# Altium footprint library smdchip.PcbLib: 57 footprints (part 3 of 4)
Each footprint in its own frame and in the unit in brackets; x right, y up, seen from the top. Pads: shape width x height; smd on the part's side, far side on the other; paste and mask are expansions set on the pad; w line width, h text height; cw(c..) or ccw(c..) is an arc to the next point about the centre after c.
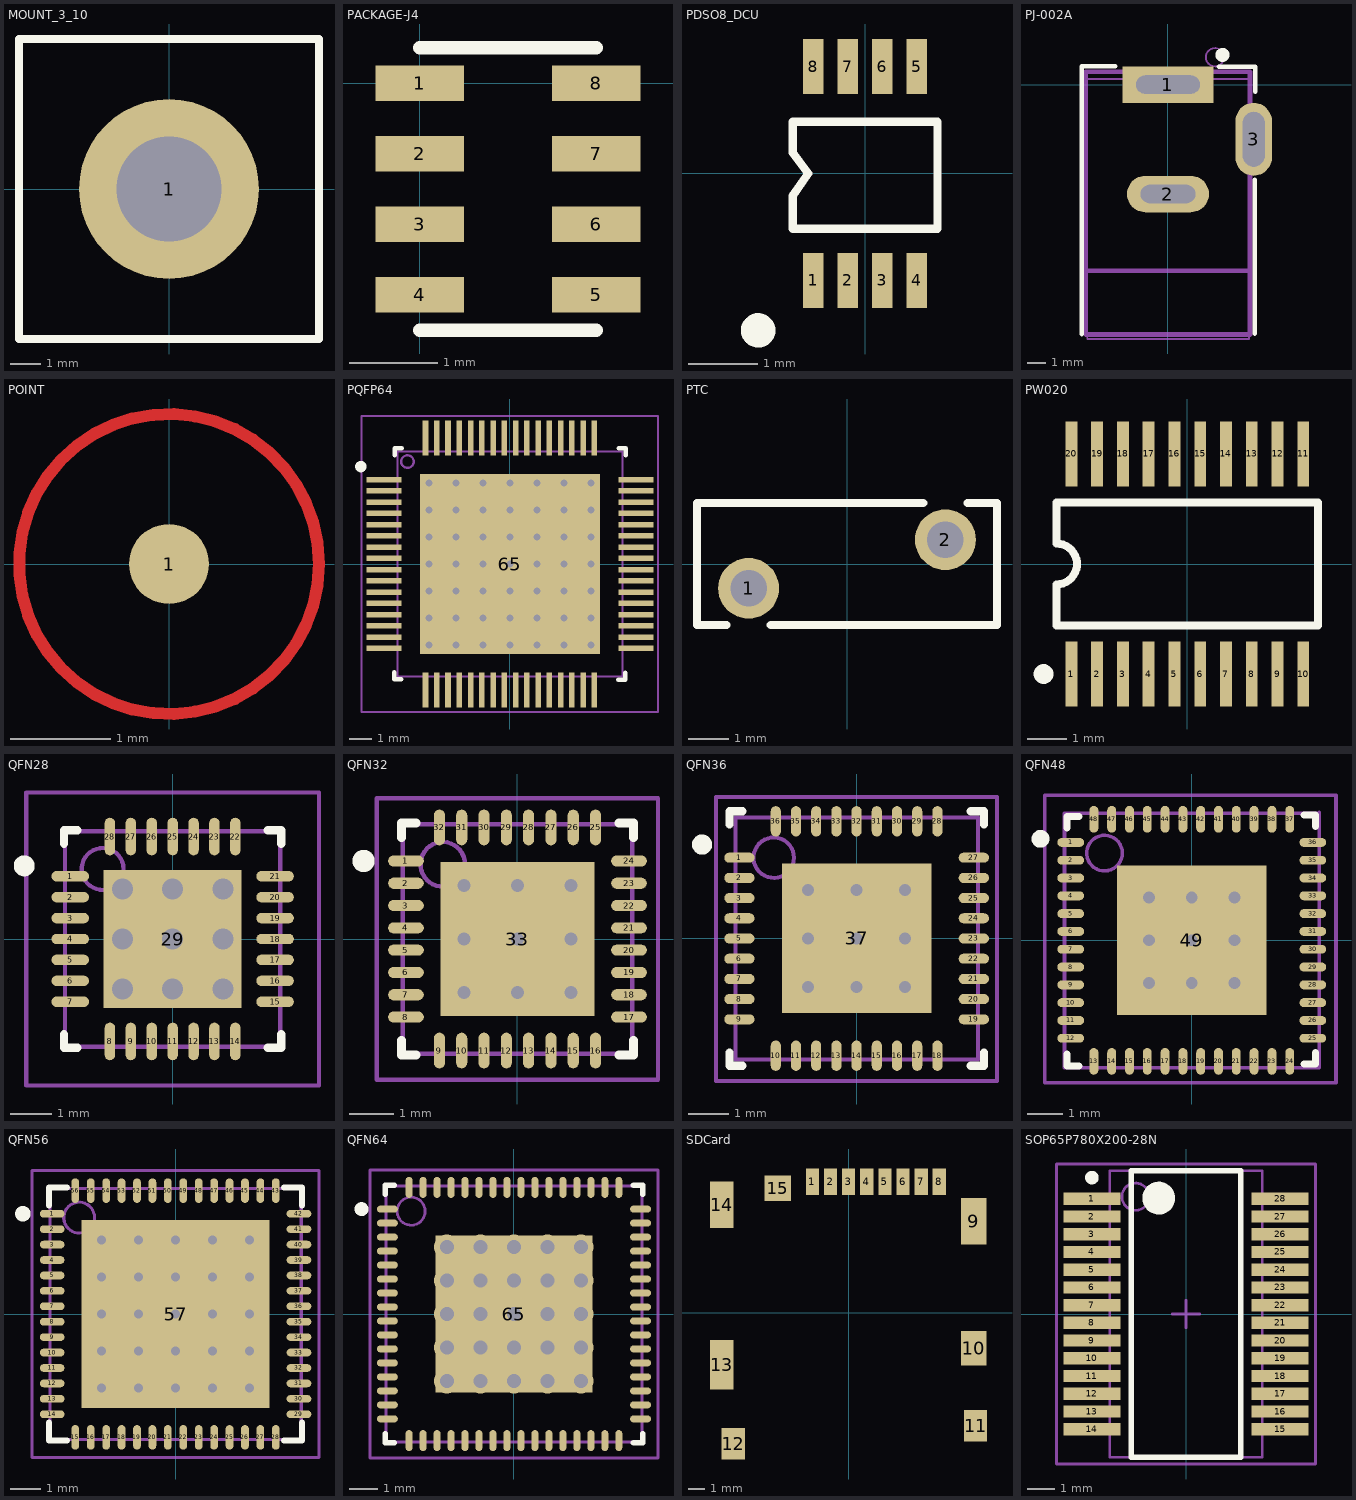
[diagram p2: the footprints below, top view; thin cyan lines are the x and y axes]

## MOUNT_3_10 [mm]
pads (1):
  round 6 hole 3.5: 1(0,0)
Top Overlay:
  lines w0.254: -5,-5 5,-5 5,5 -5,5 -5,-5
Mechanical 15:
  lines w0.1: -0.483,0 0.517,0 ; 0.017,-0.5 0.017,0.5 ; -5,-4.975 5,-4.975 5,4.95 -5,4.95 -5,-4.975

## PACKAGE-J4 [mm]
pads (8):
  rect 1x0.4 smd: 1(0,0) 2(0,-0.8) 3(0,-1.6) 4(0,-2.4) 5(2,-2.4) 6(2,-1.6) 7(2,-0.8) 8(2,0)
Top Overlay:
  lines w0.15: 0,-2.8 2,-2.8 ; 0,0.4 2,0.4

## PDSO8_DCU [mm] "Plastic Small Outline; 8 Leads; Body Width 3.15 mm; Pitch 0.65 mm"
height 1.2
pads (8):
  rect 0.3x0.8 smd mask+0.05: 1(-0.75,-1.55) 2(-0.25,-1.55) 3(0.25,-1.55) 4(0.75,-1.55) 5(0.75,1.55) 6(0.25,1.55) 7(-0.25,1.55) 8(-0.75,1.55)
Top Overlay:
  circle w0.25: c-1.55,-2.275 r0.125
  lines w0.12: -1.05,-0.8 -1.05,-0.325 -0.825,0 -1.05,0.3 -1.05,0.75 1.05,0.75 1.05,-0.8 -1.05,-0.8

## PJ-002A [mm] "DC POWER JACK"
height 11
pads (3):
  rect 5x2 hole 1 slot 3.5 at 0 deg: 1(0,0)
  oval 4.5x2 hole 1 slot 3 at 0 deg: 2(0,-6)
  oval 2x4 hole 1.2 slot 3 at 90 deg: 3(4.7,-3)
Top Overlay:
  circle w0.4: c2.985,1.625 r0.185
  lines w0.254: -4.725,-13.675 -4.725,1 -2.9,1 ; 2.8,0.975 4.775,0.975 4.775,-0.4 ; 4.75,-13.645 4.75,-5.225
Mechanical 13:
  circle w0.1: c2.575,1.5 r0.5
  lines w0.1: -4.425,-13.95 -4.425,0.3 4.45,0.3 4.45,-13.95 -4.425,-13.95
Mechanical 15:
  lines w0.254: -4.5,-10.2 4.5,-10.2 ; -4.5,-13.7 4.5,-13.7 4.5,0.7 -4.5,0.7 -4.5,-13.7
3D body: height 11, standoff 0, extent -4.425,-13.925 4.375,0.3

## POINT [mm] "Point Pick"
pads (1):
  round 0.8 smd paste-1 mask+1: 1(0,0)
Top Layer:
  circle w0.12: c0,0 r1.5

## PQFP64 [mm] "64-Pin Quad Flat Pad 0.5 mm Pitch, IPC Low Density"
height 1
pads (65):
  rect 1.55x0.25 smd: 1(-5.6,3.75) 2(-5.6,3.25) 3(-5.6,2.75) 4(-5.6,2.25) 5(-5.6,1.75) 6(-5.6,1.25) 7(-5.6,0.75) 8(-5.6,0.25) 9(-5.6,-0.25) 10(-5.6,-0.75) 11(-5.6,-1.25) 12(-5.6,-1.75) 13(-5.6,-2.25) 14(-5.6,-2.75) 15(-5.6,-3.25) 16(-5.6,-3.75) 33(5.6,-3.75) 34(5.6,-3.25) 35(5.6,-2.75) 36(5.6,-2.25) 37(5.6,-1.75) 38(5.6,-1.25) 39(5.6,-0.75) 40(5.6,-0.25) 41(5.6,0.25) 42(5.6,0.75) 43(5.6,1.25) 44(5.6,1.75) 45(5.6,2.25) 46(5.6,2.75) 47(5.6,3.25) 48(5.6,3.75)
  rect 0.25x1.55 smd: 17(-3.75,-5.6) 18(-3.25,-5.6) 19(-2.75,-5.6) 20(-2.25,-5.6) 21(-1.75,-5.6) 22(-1.25,-5.6) 23(-0.75,-5.6) 24(-0.25,-5.6) 25(0.25,-5.6) 26(0.75,-5.6) 27(1.25,-5.6) 28(1.75,-5.6) 29(2.25,-5.6) 30(2.75,-5.6) 31(3.25,-5.6) 32(3.75,-5.6) 49(3.75,5.6) 50(3.25,5.6) 51(2.75,5.6) 52(2.25,5.6) 53(1.75,5.6) 54(1.25,5.6) 55(0.75,5.6) 56(0.25,5.6) 57(-0.25,5.6) 58(-0.75,5.6) 59(-1.25,5.6) 60(-1.75,5.6) 61(-2.25,5.6) 62(-2.75,5.6) 63(-3.25,5.6) 64(-3.75,5.6)
  rect 8x8 smd: 65(0,0)
via -3.6,-2.4 diameter 0.8 hole 0.3
via -3.6,-1.2 diameter 0.8 hole 0.3
via -3.6,0 diameter 0.8 hole 0.3
via -3.6,1.2 diameter 0.8 hole 0.3
via -3.6,2.4 diameter 0.8 hole 0.3
via -3.6,3.6 diameter 0.8 hole 0.3
via -3.6,-3.6 diameter 0.8 hole 0.3
via 3.6,-2.4 diameter 0.8 hole 0.3
via 3.6,-1.2 diameter 0.8 hole 0.3
via 3.6,0 diameter 0.8 hole 0.3
via 3.6,1.2 diameter 0.8 hole 0.3
via 3.6,2.4 diameter 0.8 hole 0.3
via 3.6,3.6 diameter 0.8 hole 0.3
via 3.6,-3.6 diameter 0.8 hole 0.3
via 2.4,-3.6 diameter 0.8 hole 0.3
via 1.2,-3.6 diameter 0.8 hole 0.3
via 0,-3.6 diameter 0.8 hole 0.3
via -1.2,-3.6 diameter 0.8 hole 0.3
via -2.4,-3.6 diameter 0.8 hole 0.3
via 2.4,3.6 diameter 0.8 hole 0.3
via 1.2,3.6 diameter 0.8 hole 0.3
via 0,3.6 diameter 0.8 hole 0.3
via -1.2,3.6 diameter 0.8 hole 0.3
via -2.4,3.6 diameter 0.8 hole 0.3
via -2.4,2.4 diameter 0.8 hole 0.3
via -1.2,2.4 diameter 0.8 hole 0.3
via 0,2.4 diameter 0.8 hole 0.3
via 1.2,2.4 diameter 0.8 hole 0.3
via 2.4,2.4 diameter 0.8 hole 0.3
via -2.4,1.2 diameter 0.8 hole 0.3
via -1.2,1.2 diameter 0.8 hole 0.3
via 0,1.2 diameter 0.8 hole 0.3
via 1.2,1.2 diameter 0.8 hole 0.3
via 2.4,1.2 diameter 0.8 hole 0.3
via -2.4,0 diameter 0.8 hole 0.3
via -1.2,0 diameter 0.8 hole 0.3
via 0,0 diameter 0.8 hole 0.3
via 1.2,0 diameter 0.8 hole 0.3
via 2.4,0 diameter 0.8 hole 0.3
via -2.4,-1.2 diameter 0.8 hole 0.3
via -1.2,-1.2 diameter 0.8 hole 0.3
via 0,-1.2 diameter 0.8 hole 0.3
via 1.2,-1.2 diameter 0.8 hole 0.3
via 2.4,-1.2 diameter 0.8 hole 0.3
via -2.4,-2.4 diameter 0.8 hole 0.3
via -1.2,-2.4 diameter 0.8 hole 0.3
via 0,-2.4 diameter 0.8 hole 0.3
via 1.2,-2.4 diameter 0.8 hole 0.3
via 2.4,-2.4 diameter 0.8 hole 0.3
Top Overlay:
  circle w0.25: c-6.625,4.325 r0.125
  lines w0.2: -5.15,-4.8 -5.15,-5.125 -4.825,-5.125 ; -5.125,4.825 -5.125,5.15 -4.8,5.15 ; 4.8,-5.15 5.125,-5.15 5.125,-4.825 ; 4.825,5.15 5.15,5.15 5.15,4.825
Bottom Solder:
  circle w0.6: c3.6,-3.6 r0.15
  circle w0.6: c3.6,-2.4 r0.15
  circle w0.6: c3.6,-1.2 r0.15
  circle w0.6: c3.6,0 r0.15
  circle w0.6: c3.6,1.2 r0.15
  circle w0.6: c3.6,2.4 r0.15
  circle w0.6: c3.6,3.6 r0.15
  circle w0.6: c2.4,2.4 r0.15
  circle w0.6: c2.4,3.6 r0.15
  circle w0.6: c2.4,1.2 r0.15
  circle w0.6: c2.4,0 r0.15
  circle w0.6: c2.4,-1.2 r0.15
  circle w0.6: c2.4,-2.4 r0.15
  circle w0.6: c2.4,-3.6 r0.15
  circle w0.6: c1.2,-3.6 r0.15
  circle w0.6: c1.2,-2.4 r0.15
  circle w0.6: c1.2,-1.2 r0.15
  circle w0.6: c1.2,0 r0.15
  circle w0.6: c1.2,1.2 r0.15
  circle w0.6: c1.2,2.4 r0.15
  circle w0.6: c1.2,3.6 r0.15
  circle w0.6: c0,3.6 r0.15
  circle w0.6: c0,2.4 r0.15
  circle w0.6: c0,1.2 r0.15
  circle w0.6: c0,0 r0.15
  circle w0.6: c0,-1.2 r0.15
  circle w0.6: c0,-2.4 r0.15
  circle w0.6: c0,-3.6 r0.15
  circle w0.6: c-1.2,-3.6 r0.15
  circle w0.6: c-1.2,-2.4 r0.15
  circle w0.6: c-1.2,-1.2 r0.15
  circle w0.6: c-1.2,0 r0.15
  circle w0.6: c-1.2,1.2 r0.15
  circle w0.6: c-1.2,2.4 r0.15
  circle w0.6: c-1.2,3.6 r0.15
  circle w0.6: c-2.4,3.6 r0.15
  circle w0.6: c-2.4,2.4 r0.15
  circle w0.6: c-2.4,1.2 r0.15
  circle w0.6: c-2.4,0 r0.15
  circle w0.6: c-2.4,-1.2 r0.15
  circle w0.6: c-2.4,-2.4 r0.15
  circle w0.6: c-2.4,-3.6 r0.15
  circle w0.6: c-3.6,-3.6 r0.15
  circle w0.6: c-3.6,-2.4 r0.15
  circle w0.6: c-3.6,-1.2 r0.15
  circle w0.6: c-3.6,0 r0.15
  circle w0.6: c-3.6,1.2 r0.15
  circle w0.6: c-3.6,2.4 r0.15
  circle w0.6: c-3.6,3.6 r0.15
Mechanical 13:
  circle w0.1: c-4.555,4.55 r0.28
  lines w0.1: -5,-5 -5,5 5,5 5,-5 -5,-5
Mechanical 15:
  lines w0.1: -0.5,0 0.5,0 ; 0,-0.5 0,0.5 ; -6.6,-6.575 -6.6,6.575 6.575,6.575 6.575,-6.575 -6.6,-6.575
3D body: height 1, standoff 0, extent -5,-4.975 5,5

## PTC [mm]
height 11.6
pads (2):
  round 1.5 hole 0.9: 1(-2.427,-0.6) 2(2.427,0.6)
Top Overlay:
  lines w0.2: -2.974,-1.5 -3.7,-1.5 -3.7,1.5 1.88,1.5 ; -1.88,-1.5 3.7,-1.5 3.7,1.5 2.974,1.5
3D body: height 11.6, standoff 0, extent -3.683,-0.762 3.683,0.889

## PW020 [mm] "Shrink Small Outline; 20 Leads; Body Width 4.4 mm; Pitch 0.65 mm"
height 1.2
pads (20):
  rect 0.3x1.65 smd: 1(-2.925,-2.775) 2(-2.275,-2.775) 3(-1.625,-2.775) 4(-0.975,-2.775) 5(-0.325,-2.775) 6(0.325,-2.775) 7(0.975,-2.775) 8(1.625,-2.775) 9(2.275,-2.775) 10(2.925,-2.775) 11(2.925,2.775) 12(2.275,2.775) 13(1.625,2.775) 14(0.975,2.775) 15(0.325,2.775) 16(-0.325,2.775) 17(-0.975,2.775) 18(-1.625,2.775) 19(-2.275,2.775) 20(-2.925,2.775)
Top Overlay:
  circle w0.25: c-3.625,-2.775 r0.125
  lines w0.2: -3.3,-1.55 3.3,-1.55 3.3,1.55 -3.3,1.55 -3.3,0.517 cw(c-3.3,0) -3.3,-0.517 -3.3,-1.55

## QFN28 [mm] "28-Pin Quad Flat No-Lead 0.5 mm Pitch, IPC Low Density"
height 1
pads (29):
  oval 0.9x0.25 smd: 1(-2.45,1.5) 2(-2.45,1) 3(-2.45,0.5) 4(-2.45,0) 5(-2.45,-0.5) 6(-2.45,-1) 7(-2.45,-1.5) 15(2.45,-1.5) 16(2.45,-1) 17(2.45,-0.5) 18(2.45,0) 19(2.45,0.5) 20(2.45,1) 21(2.45,1.5)
  oval 0.25x0.9 smd: 8(-1.5,-2.45) 9(-1,-2.45) 10(-0.5,-2.45) 11(0,-2.45) 12(0.5,-2.45) 13(1,-2.45) 14(1.5,-2.45) 22(1.5,2.45) 23(1,2.45) 24(0.5,2.45) 25(0,2.45) 26(-0.5,2.45) 27(-1,2.45) 28(-1.5,2.45)
  rect 3.3x3.3 smd: 29(0,0)
via 1.2,-1.2 diameter 0.85 hole 0.5
via 0,-1.2 diameter 0.85 hole 0.5
via -1.2,-1.2 diameter 0.85 hole 0.5
via 1.2,0 diameter 0.85 hole 0.5
via 0,0 diameter 0.85 hole 0.5
via -1.2,0 diameter 0.85 hole 0.5
via 1.2,1.2 diameter 0.85 hole 0.5
via 0,1.2 diameter 0.85 hole 0.5
via -1.2,1.2 diameter 0.85 hole 0.5
Top Overlay:
  circle w0.25: c-3.55,1.75 r0.125
  lines w0.2: -2.6,-2.275 -2.6,-2.6 -2.275,-2.6 ; -2.6,2.275 -2.6,2.6 -2.275,2.6 ; 2.275,-2.6 2.6,-2.6 2.6,-2.275 ; 2.275,2.6 2.6,2.6 2.6,2.275
Mechanical 13:
  circle w0.1: c-1.675,1.675 r0.5
  lines w0.1: -2.575,-2.575 2.575,-2.575 2.575,2.575 -2.575,2.575 -2.575,-2.575
Mechanical 15:
  lines w0.1: -0.5,0 0.5,0 ; 0,-0.5 0,0.5 ; -3.5,-3.5 3.5,-3.5 3.5,3.5 -3.5,3.5 -3.5,-3.5
3D body: height 1, standoff 0, extent -2.575,-2.575 2.575,2.575

## QFN32 [mm] "32-Pin Quad Flat No-Lead 0.5 mm Pitch, IPC Medium Density"
height 1
pads (33):
  oval 0.8x0.25 smd: 1(-2.5,1.75) 2(-2.5,1.25) 3(-2.5,0.75) 4(-2.5,0.25) 5(-2.5,-0.25) 6(-2.5,-0.75) 7(-2.5,-1.25) 8(-2.5,-1.75) 17(2.5,-1.75) 18(2.5,-1.25) 19(2.5,-0.75) 20(2.5,-0.25) 21(2.5,0.25) 22(2.5,0.75) 23(2.5,1.25) 24(2.5,1.75)
  oval 0.25x0.8 smd: 9(-1.75,-2.5) 10(-1.25,-2.5) 11(-0.75,-2.5) 12(-0.25,-2.5) 13(0.25,-2.5) 14(0.75,-2.5) 15(1.25,-2.5) 16(1.75,-2.5) 25(1.75,2.5) 26(1.25,2.5) 27(0.75,2.5) 28(0.25,2.5) 29(-0.25,2.5) 30(-0.75,2.5) 31(-1.25,2.5) 32(-1.75,2.5)
  rect 3.45x3.45 smd: 33(0,0)
via -1.2,1.2 diameter 0.6 hole 0.3
via 0,1.2 diameter 0.6 hole 0.3
via 1.2,1.2 diameter 0.6 hole 0.3
via -1.2,0 diameter 0.6 hole 0.3
via 0,0 diameter 0.6 hole 0.3
via 1.2,0 diameter 0.6 hole 0.3
via -1.2,-1.2 diameter 0.6 hole 0.3
via 0,-1.2 diameter 0.6 hole 0.3
via 1.2,-1.2 diameter 0.6 hole 0.3
Top Overlay:
  circle w0.25: c-3.45,1.75 r0.125
  lines w0.2: -2.6,-2.275 -2.6,-2.6 -2.275,-2.6 ; -2.6,2.275 -2.6,2.6 -2.275,2.6 ; 2.275,-2.6 2.6,-2.6 2.6,-2.275 ; 2.275,2.6 2.6,2.6 2.6,2.275
Bottom Solder:
  circle w0.4: c-1.2,1.2 r0.15
  circle w0.4: c-1.2,0 r0.15
  circle w0.4: c-1.2,-1.2 r0.15
  circle w0.4: c0,-1.2 r0.15
  circle w0.4: c0,0 r0.15
  circle w0.4: c0,1.2 r0.15
  circle w0.4: c1.2,1.2 r0.15
  circle w0.4: c1.2,0 r0.15
  circle w0.4: c1.2,-1.2 r0.15
Mechanical 13:
  circle w0.1: c-1.675,1.675 r0.5
  lines w0.1: -2.575,-2.575 -2.575,2.575 2.575,2.575 2.575,-2.575 -2.575,-2.575
Mechanical 15:
  lines w0.1: -0.5,0 0.5,0 ; 0,-0.5 0,0.5 ; -3.15,-3.15 -3.15,3.15 3.15,3.15 3.15,-3.15 -3.15,-3.15
3D body: height 1, standoff 0, extent -2.575,-2.575 2.575,2.575

## QFN36 [mm] "36-Pin Quad Flat No-Lead 0.5 mm Pitch, IPC Medium Density"
height 1
pads (37):
  oval 0.75x0.25 smd: 1(-2.9,2) 2(-2.9,1.5) 3(-2.9,1) 4(-2.9,0.5) 5(-2.9,0) 6(-2.9,-0.5) 7(-2.9,-1) 8(-2.9,-1.5) 9(-2.9,-2) 19(2.9,-2) 20(2.9,-1.5) 21(2.9,-1) 22(2.9,-0.5) 23(2.9,0) 24(2.9,0.5) 25(2.9,1) 26(2.9,1.5) 27(2.9,2)
  oval 0.25x0.75 smd: 10(-2,-2.9) 11(-1.5,-2.9) 12(-1,-2.9) 13(-0.5,-2.9) 14(0,-2.9) 15(0.5,-2.9) 16(1,-2.9) 17(1.5,-2.9) 18(2,-2.9) 28(2,2.9) 29(1.5,2.9) 30(1,2.9) 31(0.5,2.9) 32(0,2.9) 33(-0.5,2.9) 34(-1,2.9) 35(-1.5,2.9) 36(-2,2.9)
  rect 3.7x3.7 smd: 37(0,0)
via -1.2,1.2 diameter 0.6 hole 0.3
via 0,1.2 diameter 0.6 hole 0.3
via 1.2,1.2 diameter 0.6 hole 0.3
via -1.2,0 diameter 0.6 hole 0.3
via 0,0 diameter 0.6 hole 0.3
via 1.2,0 diameter 0.6 hole 0.3
via -1.2,-1.2 diameter 0.6 hole 0.3
via 0,-1.2 diameter 0.6 hole 0.3
via 1.2,-1.2 diameter 0.6 hole 0.3
Top Overlay:
  circle w0.25: c-3.825,2.325 r0.125
  lines w0.2: -3.15,-2.825 -3.15,-3.15 -2.825,-3.15 ; -3.15,2.825 -3.15,3.15 -2.825,3.15 ; 2.825,-3.15 3.15,-3.15 3.15,-2.825 ; 2.825,3.15 3.15,3.15 3.15,2.825
Bottom Solder:
  circle w0.4: c-1.2,1.2 r0.15
  circle w0.4: c-1.2,0 r0.15
  circle w0.4: c-1.2,-1.2 r0.15
  circle w0.4: c0,-1.2 r0.15
  circle w0.4: c0,0 r0.15
  circle w0.4: c0,1.2 r0.15
  circle w0.4: c1.2,1.2 r0.15
  circle w0.4: c1.2,0 r0.15
  circle w0.4: c1.2,-1.2 r0.15
Mechanical 13:
  circle w0.1: c-2.05,2 r0.5
  lines w0.1: -3,-3 -3,3 3,3 3,-3 -3,-3
Mechanical 15:
  lines w0.1: -0.5,0 0.5,0 ; 0,-0.5 0,0.5 ; -3.475,-3.525 -3.475,3.5 3.475,3.5 3.475,-3.525 -3.475,-3.525
3D body: height 1, standoff 0, extent -3,-3 3,3

## QFN48 [mm] "48-Pin Quad Flat No-Lead 0.5 mm Pitch, IPC Medium Density"
height 1
pads (49):
  oval 0.75x0.25 smd: 1(-3.4,2.75) 2(-3.4,2.25) 3(-3.4,1.75) 4(-3.4,1.25) 5(-3.4,0.75) 6(-3.4,0.25) 7(-3.4,-0.25) 8(-3.4,-0.75) 9(-3.4,-1.25) 10(-3.4,-1.75) 11(-3.4,-2.25) 12(-3.4,-2.75) 25(3.4,-2.75) 26(3.4,-2.25) 27(3.4,-1.75) 28(3.4,-1.25) 29(3.4,-0.75) 30(3.4,-0.25) 31(3.4,0.25) 32(3.4,0.75) 33(3.4,1.25) 34(3.4,1.75) 35(3.4,2.25) 36(3.4,2.75)
  oval 0.25x0.75 smd: 13(-2.75,-3.4) 14(-2.25,-3.4) 15(-1.75,-3.4) 16(-1.25,-3.4) 17(-0.75,-3.4) 18(-0.25,-3.4) 19(0.25,-3.4) 20(0.75,-3.4) 21(1.25,-3.4) 22(1.75,-3.4) 23(2.25,-3.4) 24(2.75,-3.4) 37(2.75,3.4) 38(2.25,3.4) 39(1.75,3.4) 40(1.25,3.4) 41(0.75,3.4) 42(0.25,3.4) 43(-0.25,3.4) 44(-0.75,3.4) 45(-1.25,3.4) 46(-1.75,3.4) 47(-2.25,3.4) 48(-2.75,3.4)
  rect 4.2x4.2 smd: 49(0,0)
via 1.2,-1.2 diameter 0.66 hole 0.33
via 0,-1.2 diameter 0.66 hole 0.33
via -1.2,-1.2 diameter 0.66 hole 0.33
via 1.2,0 diameter 0.66 hole 0.33
via 0,0 diameter 0.66 hole 0.33
via -1.2,0 diameter 0.66 hole 0.33
via 1.2,1.2 diameter 0.66 hole 0.33
via 0,1.2 diameter 0.66 hole 0.33
via -1.2,1.2 diameter 0.66 hole 0.33
Top Overlay:
  circle w0.25: c-4.25,2.85 r0.125
  lines w0.2: -3.5,-3.2 -3.5,-3.525 -3.175,-3.525 ; -3.5,3.15 -3.5,3.475 -3.175,3.475 ; 3.15,-3.475 3.475,-3.475 3.475,-3.15 ; 3.15,3.525 3.475,3.525 3.475,3.2
Mechanical 13:
  circle w0.1: c-2.45,2.45 r0.5
  lines w0.1: 3.575,3.575 -3.575,3.575 -3.575,-3.575 3.575,-3.575 3.575,3.6
Mechanical 15:
  lines w0.1: -0.5,0 0.5,0 ; 0,-0.5 0,0.5 ; -4.125,-4 4.05,-4 4.05,4.075 -4.125,4.075 -4.125,-4
3D body: height 1, standoff 0, extent -3.55,-3.55 3.55,3.575

## QFN56 [mm] "QFN, 56-Leads, Body 8,1x8,1mm (max), Pitch 0,50mm, IPC Medium Density"
height 1
pads (57):
  oval 0.8x0.25 smd: 1(-4,3.25) 2(-4,2.75) 3(-4,2.25) 4(-4,1.75) 5(-4,1.25) 6(-4,0.75) 7(-4,0.25) 8(-4,-0.25) 9(-4,-0.75) 10(-4,-1.25) 11(-4,-1.75) 12(-4,-2.25) 13(-4,-2.75) 14(-4,-3.25) 29(4,-3.25) 30(4,-2.75) 31(4,-2.25) 32(4,-1.75) 33(4,-1.25) 34(4,-0.75) 35(4,-0.25) 36(4,0.25) 37(4,0.75) 38(4,1.25) 39(4,1.75) 40(4,2.25) 41(4,2.75) 42(4,3.25)
  oval 0.25x0.8 smd: 15(-3.25,-4) 16(-2.75,-4) 17(-2.25,-4) 18(-1.75,-4) 19(-1.25,-4) 20(-0.75,-4) 21(-0.25,-4) 22(0.25,-4) 23(0.75,-4) 24(1.25,-4) 25(1.75,-4) 26(2.25,-4) 27(2.75,-4) 28(3.25,-4) 43(3.25,4) 44(2.75,4) 45(2.25,4) 46(1.75,4) 47(1.25,4) 48(0.75,4) 49(0.25,4) 50(-0.25,4) 51(-0.75,4) 52(-1.25,4) 53(-1.75,4) 54(-2.25,4) 55(-2.75,4) 56(-3.25,4)
  rect 6.1x6.1 smd: 57(0,0)
via -2.4,2.4 diameter 0.6 hole 0.3
via -1.2,2.4 diameter 0.6 hole 0.3
via 0,2.4 diameter 0.6 hole 0.3
via 1.2,2.4 diameter 0.6 hole 0.3
via 2.4,2.4 diameter 0.6 hole 0.3
via -2.4,1.2 diameter 0.6 hole 0.3
via -1.2,1.2 diameter 0.6 hole 0.3
via 0,1.2 diameter 0.6 hole 0.3
via 1.2,1.2 diameter 0.6 hole 0.3
via 2.4,1.2 diameter 0.6 hole 0.3
via -2.4,0 diameter 0.6 hole 0.3
via -1.2,0 diameter 0.6 hole 0.3
via 0,0 diameter 0.6 hole 0.3
via 1.2,0 diameter 0.6 hole 0.3
via 2.4,0 diameter 0.6 hole 0.3
via -2.4,-1.2 diameter 0.6 hole 0.3
via -1.2,-1.2 diameter 0.6 hole 0.3
via 0,-1.2 diameter 0.6 hole 0.3
via 1.2,-1.2 diameter 0.6 hole 0.3
via 2.4,-1.2 diameter 0.6 hole 0.3
via -2.4,-2.4 diameter 0.6 hole 0.3
via -1.2,-2.4 diameter 0.6 hole 0.3
via 0,-2.4 diameter 0.6 hole 0.3
via 1.2,-2.4 diameter 0.6 hole 0.3
via 2.4,-2.4 diameter 0.6 hole 0.3
Top Overlay:
  circle w0.25: c-4.95,3.25 r0.125
  lines w0.2: -4.1,-3.525 -4.1,-4.1 -3.525,-4.1 ; -4.1,3.525 -4.1,4.1 -3.525,4.1 ; 3.525,-4.1 4.1,-4.1 4.1,-3.525 ; 3.525,4.1 4.1,4.1 4.1,3.525
Bottom Solder:
  circle w0.4: c2.4,-2.4 r0.15
  circle w0.4: c2.4,-1.2 r0.15
  circle w0.4: c2.4,0 r0.15
  circle w0.4: c2.4,1.2 r0.15
  circle w0.4: c2.4,2.4 r0.15
  circle w0.4: c1.2,2.4 r0.15
  circle w0.4: c1.2,1.2 r0.15
  circle w0.4: c1.2,0 r0.15
  circle w0.4: c1.2,-1.2 r0.15
  circle w0.4: c1.2,-2.4 r0.15
  circle w0.4: c0,-2.4 r0.15
  circle w0.4: c0,-1.2 r0.15
  circle w0.4: c0,0 r0.15
  circle w0.4: c0,1.2 r0.15
  circle w0.4: c0,2.4 r0.15
  circle w0.4: c-1.2,2.4 r0.15
  circle w0.4: c-1.2,1.2 r0.15
  circle w0.4: c-1.2,0 r0.15
  circle w0.4: c-1.2,-1.2 r0.15
  circle w0.4: c-1.2,-2.4 r0.15
  circle w0.4: c-2.4,-2.4 r0.15
  circle w0.4: c-2.4,-1.2 r0.15
  circle w0.4: c-2.4,0 r0.15
  circle w0.4: c-2.4,1.2 r0.15
  circle w0.4: c-2.4,2.4 r0.15
Mechanical 13:
  circle w0.1: c-3.125,3.125 r0.5
  lines w0.1: -4.075,-4.075 4.075,-4.075 4.075,4.075 -4.075,4.075 -4.075,-4.075
Mechanical 15:
  lines w0.1: -4.65,-4.65 4.65,-4.65 4.65,4.65 -4.65,4.65 -4.65,-4.65 ; -0.5,0 0.5,0 -0.5,0 ; 0,-0.5 0,0.5 0,-0.5
3D body: height 1, standoff 0.05, extent -4.075,-4.075 4.075,4.075

## QFN64 [mm] "64-Pin Quad Flat No-Lead 0.5 mm Pitch, IPC Medium Density"
height 1
pads (65):
  oval 0.75x0.25 smd: 1(-4.525,3.75) 2(-4.525,3.25) 3(-4.525,2.75) 4(-4.525,2.25) 5(-4.525,1.75) 6(-4.525,1.25) 7(-4.525,0.75) 8(-4.525,0.25) 9(-4.525,-0.25) 10(-4.525,-0.75) 11(-4.525,-1.25) 12(-4.525,-1.75) 13(-4.525,-2.25) 14(-4.525,-2.75) 15(-4.525,-3.25) 16(-4.525,-3.75) 33(4.525,-3.75) 34(4.525,-3.25) 35(4.525,-2.75) 36(4.525,-2.25) 37(4.525,-1.75) 38(4.525,-1.25) 39(4.525,-0.75) 40(4.525,-0.25) 41(4.525,0.25) 42(4.525,0.75) 43(4.525,1.25) 44(4.525,1.75) 45(4.525,2.25) 46(4.525,2.75) 47(4.525,3.25) 48(4.525,3.75)
  oval 0.25x0.75 smd: 17(-3.75,-4.525) 18(-3.25,-4.525) 19(-2.75,-4.525) 20(-2.25,-4.525) 21(-1.75,-4.525) 22(-1.25,-4.525) 23(-0.75,-4.525) 24(-0.25,-4.525) 25(0.25,-4.525) 26(0.75,-4.525) 27(1.25,-4.525) 28(1.75,-4.525) 29(2.25,-4.525) 30(2.75,-4.525) 31(3.25,-4.525) 32(3.75,-4.525) 49(3.75,4.525) 50(3.25,4.525) 51(2.75,4.525) 52(2.25,4.525) 53(1.75,4.525) 54(1.25,4.525) 55(0.75,4.525) 56(0.25,4.525) 57(-0.25,4.525) 58(-0.75,4.525) 59(-1.25,4.525) 60(-1.75,4.525) 61(-2.25,4.525) 62(-2.75,4.525) 63(-3.25,4.525) 64(-3.75,4.525)
  rect 5.6x5.6 smd: 65(0,0)
via -2.4,2.4 diameter 0.9 hole 0.5
via -1.2,2.4 diameter 0.9 hole 0.5
via 0,2.4 diameter 0.9 hole 0.5
via 1.2,2.4 diameter 0.9 hole 0.5
via 2.4,2.4 diameter 0.9 hole 0.5
via -2.4,1.2 diameter 0.9 hole 0.5
via -1.2,1.2 diameter 0.9 hole 0.5
via 0,1.2 diameter 0.9 hole 0.5
via 1.2,1.2 diameter 0.9 hole 0.5
via 2.4,1.2 diameter 0.9 hole 0.5
via -2.4,0 diameter 0.9 hole 0.5
via -1.2,0 diameter 0.9 hole 0.5
via 0,0 diameter 0.9 hole 0.5
via 1.2,0 diameter 0.9 hole 0.5
via 2.4,0 diameter 0.9 hole 0.5
via -2.4,-1.2 diameter 0.9 hole 0.5
via -1.2,-1.2 diameter 0.9 hole 0.5
via 0,-1.2 diameter 0.9 hole 0.5
via 1.2,-1.2 diameter 0.9 hole 0.5
via 2.4,-1.2 diameter 0.9 hole 0.5
via -2.4,-2.4 diameter 0.9 hole 0.5
via -1.2,-2.4 diameter 0.9 hole 0.5
via 0,-2.4 diameter 0.9 hole 0.5
via 1.2,-2.4 diameter 0.9 hole 0.5
via 2.4,-2.4 diameter 0.9 hole 0.5
Top Overlay:
  circle w0.25: c-5.45,3.75 r0.125
  lines w0.2: -4.6,-4.275 -4.6,-4.6 -4.275,-4.6 ; -4.6,4.275 -4.6,4.6 -4.275,4.6 ; 4.275,-4.6 4.6,-4.6 4.6,-4.275 ; 4.275,4.6 4.6,4.6 4.6,4.275
Mechanical 13:
  circle w0.1: c-3.675,3.675 r0.5
  lines w0.1: -4.575,-4.575 -4.575,4.575 4.575,4.575 4.575,-4.575 -4.575,-4.575
Mechanical 15:
  lines w0.1: -0.5,0 0.5,0 ; 0,-0.5 0,0.5 ; -5.15,-5.15 -5.15,5.15 5.15,5.15 5.15,-5.15 -5.15,-5.15
3D body: height 1, standoff 0, extent -4.575,-4.575 4.575,4.575

## SDCard [mm] "molex 0492250821"
pads (15):
  rect 0.8x1.6 smd: 1(-2.2,7.95) 2(-1.1,7.95) 3(0,7.95) 4(1.1,7.95) 5(2.2,7.95) 6(3.3,7.95) 7(4.4,7.95) 8(5.5,7.95)
  rect 1.55x2.8 smd: 9(7.6,5.55)
  rect 1.55x2.1 smd: 10(7.6,-2.15)
  rect 1.4x1.9 smd: 11(7.7,-6.85) 12(-7,-7.95)
  rect 1.4x3 smd: 13(-7.7,-3.15)
  rect 1.4x2.8 smd: 14(-7.7,6.55)
  rect 1.6x1.55 smd: 15(-4.3,7.55)
3D body: height 1.95, standoff -0.03, extent -8.05,-8.5 8.05,8.55

## SOP65P780X200-28N [mm] "SOP, 28-Leads, Body 10,5x5,6mm (max), Pitch 0,65mm, IPC Medium Density"
height 2
pads (28):
  rect 2.1x0.45 smd mask+0.05: 1(-3.45,4.225) 2(-3.45,3.575) 3(-3.45,2.925) 4(-3.45,2.275) 5(-3.45,1.625) 6(-3.45,0.975) 7(-3.45,0.325) 8(-3.45,-0.325) 9(-3.45,-0.975) 10(-3.45,-1.625) 11(-3.45,-2.275) 12(-3.45,-2.925) 13(-3.45,-3.575) 14(-3.45,-4.225) 15(3.45,-4.225) 16(3.45,-3.575) 17(3.45,-2.925) 18(3.45,-2.275) 19(3.45,-1.625) 20(3.45,-0.975) 21(3.45,-0.325) 22(3.45,0.325) 23(3.45,0.975) 24(3.45,1.625) 25(3.45,2.275) 26(3.45,2.925) 27(3.45,3.575) 28(3.45,4.225)
Top Overlay:
  circle w0.25: c-3.45,5 r0.125
  circle w0.6: c-1,4.25 r0.3
  lines w0.2: -2,-5.25 -2,5.25 2,5.25 2,-5.25 -2,-5.25
Mechanical 13:
  circle w0.1: c-1.85,4.3 r0.5
  lines w0.1: -2.8,-5.25 -2.8,5.25 2.8,5.25 2.8,-5.25 -2.8,-5.25
Mechanical 15:
  lines w0.1: -0.5,0 0.5,0 ; 0,-0.5 0,0.5 ; -4.75,-5.5 -4.75,5.5 4.75,5.5 4.75,-5.5 -4.75,-5.5
3D body: height 2, standoff 0.05, extent -2.8,-5.25 2.8,5.25